# Altium integrated library Zilog Microprocessor 8-Bit.IntLib: 44 symbols (part 1 of 2)
Pins are listed as number, name and electrical type; pins without a type are passive.

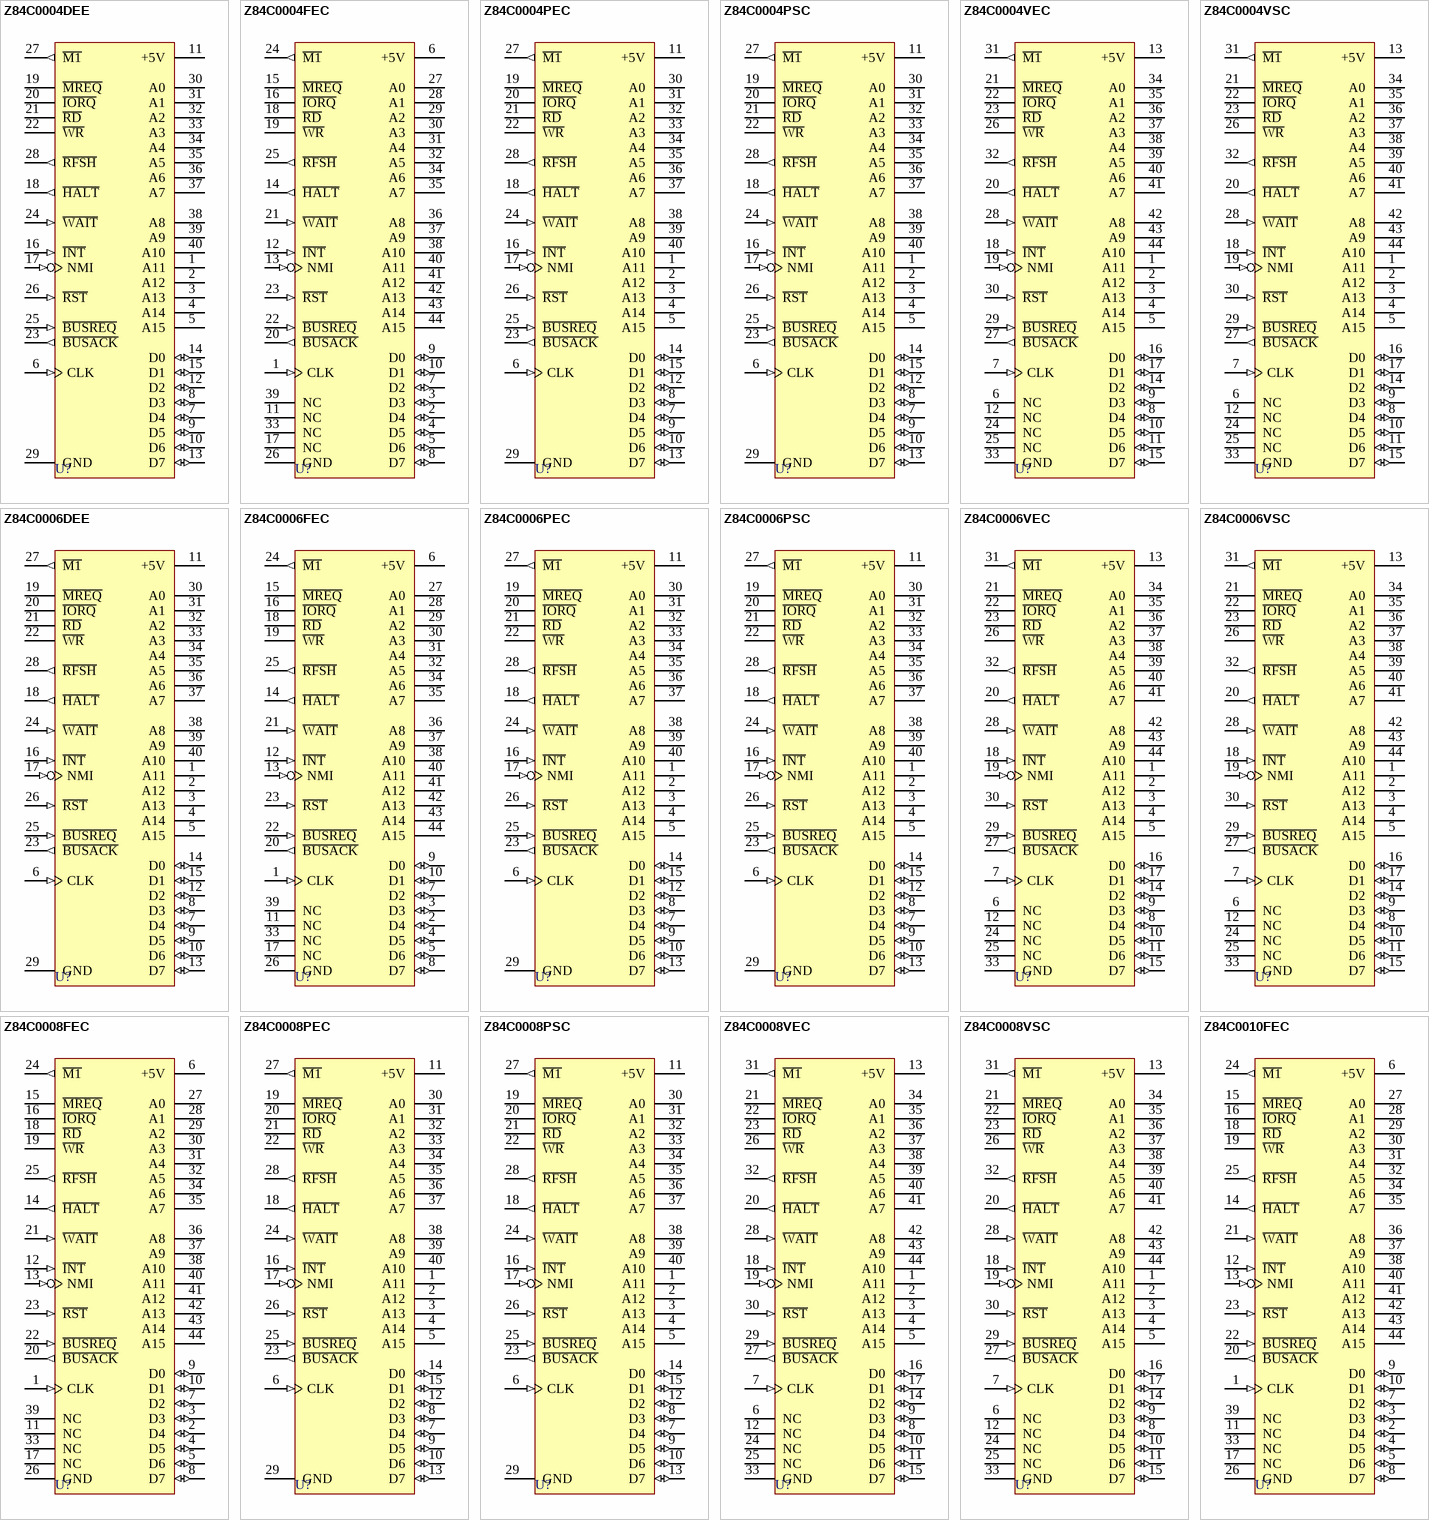
[diagram p0: symbols Z84C0004DEE to Z84C0010FEC]

## Z84C0004DEE
designator U?
CMOS 8-Bit Microprocessor; Published: 15-Apr-2002; LatestRevisionDate: 04-Mar-2005; LatestRevisionNote: Stylized 3D Model Added.; DatasheetVersion: Jan-1989; PackageVersion: 1999; PackageReference: CerDIP40; Publisher: Altium Limited; PackageDescription: DIP; 40 Leads; Row Spacing 15.24 mm; Pitch 2.54 mm; ComponentLink1Description: Manufacturer Link; ComponentLink1URL: http://www.zilog.com/
footprint CerDIP40 (DIP; 40 Leads; Row Spacing 15.24 mm; Pitch 2.54 mm)
3D model PDIP40 (DIP; 40 Leads; Row Spacing 15.24 mm; Pitch 2.54 mm)
pins: 1 A11 (hiz), 2 A12 (hiz), 3 A13 (hiz), 4 A14 (hiz), 5 A15 (hiz), 6 CLK (in), 7 D4 (io), 8 D3 (io), 9 D5 (io), 10 D6 (io), 11 +5V (power), 12 D2 (io), 13 D7 (io), 14 D0 (io), 15 D1 (io), 16 ~{INT} (in), 17 NMI (in), 18 ~{HALT} (out), 19 ~{MREQ} (hiz), 20 ~{IORQ} (hiz), 21 ~{RD} (hiz), 22 ~{WR} (hiz), 23 ~{BUSACK} (out), 24 ~{WAIT} (in), 25 ~{BUSREQ} (in), 26 ~{RST} (in), 27 ~{M1} (out), 28 ~{RFSH} (out), 29 GND (power), 30 A0 (hiz), 31 A1 (hiz), 32 A2 (hiz), 33 A3 (hiz), 34 A4 (hiz), 35 A5 (hiz), 36 A6 (hiz), 37 A7 (hiz), 38 A8 (hiz), 39 A9 (hiz), 40 A10 (hiz)

## Z84C0004FEC
designator U?
CMOS 8-Bit Microprocessor; Published: 15-Apr-2002; LatestRevisionDate: 13-Apr-2006; LatestRevisionNote: IPC-7351 Footprint Added.; DatasheetVersion: Jan-1989; PackageReference: PQFP44; Publisher: Altium Limited; PackageDescription: 44-Pin Quad Flat Pack 0.8 mm Pitch; ComponentLink1Description: Manufacturer Link; ComponentLink1URL: http://www.zilog.com/
footprint PQFP44_N (QFP, 44-Leads, Body 10x10mm, Pitch 0.8mm, IPC Medium Density)
footprint PQFP44_L (QFP, 44-Leads, Body 10x10mm, Pitch 0.8mm, IPC High Density)
footprint PQFP44_M (QFP, 44-Leads, Body 10x10mm, Pitch 0.8mm, IPC Low Density)
3D model Z84C00-PQFP44 (44-Pin Quad Flat Pack 0.8 mm Pitch)
pins: 1 CLK (in), 2 D4 (io), 3 D3 (io), 4 D5 (io), 5 D6 (io), 6 +5V (power), 7 D2 (io), 8 D7 (io), 9 D0 (io), 10 D1 (io), 11 NC, 12 ~{INT} (in), 13 NMI (in), 14 ~{HALT} (out), 15 ~{MREQ} (hiz), 16 ~{IORQ} (hiz), 17 NC, 18 ~{RD} (hiz), 19 ~{WR} (hiz), 20 ~{BUSACK} (out), 21 ~{WAIT} (in), 22 ~{BUSREQ} (in), 23 ~{RST} (in), 24 ~{M1} (out), 25 ~{RFSH} (out), 26 GND (power), 27 A0 (hiz), 28 A1 (hiz), 29 A2 (hiz), 30 A3 (hiz), 31 A4 (hiz), 32 A5 (hiz), 33 NC, 34 A6 (hiz), 35 A7 (hiz), 36 A8 (hiz), 37 A9 (hiz), 38 A10 (hiz), 39 NC, 40 A11 (hiz), 41 A12 (hiz), 42 A13 (hiz), 43 A14 (hiz), 44 A15 (hiz)

## Z84C0004PEC
designator U?
CMOS 8-Bit Microprocessor; Published: 15-Apr-2002; LatestRevisionDate: 04-Mar-2005; LatestRevisionNote: Stylized 3D Model Added.; DatasheetVersion: Jan-1989; PackageVersion: Jun-1999; PackageReference: PDIP40; Publisher: Altium Limited; PackageDescription: DIP; 40 Leads; Row Spacing 15.24 mm; Pitch 2.54 mm; ComponentLink1Description: Manufacturer Link; ComponentLink1URL: http://www.zilog.com/
footprint PDIP40 (DIP; 40 Leads; Row Spacing 15.24 mm; Pitch 2.54 mm)
3D model PDIP40 (DIP; 40 Leads; Row Spacing 15.24 mm; Pitch 2.54 mm)
pins: 1 A11 (hiz), 2 A12 (hiz), 3 A13 (hiz), 4 A14 (hiz), 5 A15 (hiz), 6 CLK (in), 7 D4 (io), 8 D3 (io), 9 D5 (io), 10 D6 (io), 11 +5V (power), 12 D2 (io), 13 D7 (io), 14 D0 (io), 15 D1 (io), 16 ~{INT} (in), 17 NMI (in), 18 ~{HALT} (out), 19 ~{MREQ} (hiz), 20 ~{IORQ} (hiz), 21 ~{RD} (hiz), 22 ~{WR} (hiz), 23 ~{BUSACK} (out), 24 ~{WAIT} (in), 25 ~{BUSREQ} (in), 26 ~{RST} (in), 27 ~{M1} (out), 28 ~{RFSH} (out), 29 GND (power), 30 A0 (hiz), 31 A1 (hiz), 32 A2 (hiz), 33 A3 (hiz), 34 A4 (hiz), 35 A5 (hiz), 36 A6 (hiz), 37 A7 (hiz), 38 A8 (hiz), 39 A9 (hiz), 40 A10 (hiz)

## Z84C0004PSC
designator U?
CMOS 8-Bit Microprocessor; Published: 15-Apr-2002; LatestRevisionDate: 04-Mar-2005; LatestRevisionNote: Stylized 3D Model Added.; DatasheetVersion: Jan-1989; PackageVersion: Jun-1999; PackageReference: PDIP40; Publisher: Altium Limited; PackageDescription: DIP; 40 Leads; Row Spacing 15.24 mm; Pitch 2.54 mm; ComponentLink1Description: Manufacturer Link; ComponentLink1URL: http://www.zilog.com/
footprint PDIP40 (DIP; 40 Leads; Row Spacing 15.24 mm; Pitch 2.54 mm)
3D model PDIP40 (DIP; 40 Leads; Row Spacing 15.24 mm; Pitch 2.54 mm)
pins: 1 A11 (hiz), 2 A12 (hiz), 3 A13 (hiz), 4 A14 (hiz), 5 A15 (hiz), 6 CLK (in), 7 D4 (io), 8 D3 (io), 9 D5 (io), 10 D6 (io), 11 +5V (power), 12 D2 (io), 13 D7 (io), 14 D0 (io), 15 D1 (io), 16 ~{INT} (in), 17 NMI (in), 18 ~{HALT} (out), 19 ~{MREQ} (hiz), 20 ~{IORQ} (hiz), 21 ~{RD} (hiz), 22 ~{WR} (hiz), 23 ~{BUSACK} (out), 24 ~{WAIT} (in), 25 ~{BUSREQ} (in), 26 ~{RST} (in), 27 ~{M1} (out), 28 ~{RFSH} (out), 29 GND (power), 30 A0 (hiz), 31 A1 (hiz), 32 A2 (hiz), 33 A3 (hiz), 34 A4 (hiz), 35 A5 (hiz), 36 A6 (hiz), 37 A7 (hiz), 38 A8 (hiz), 39 A9 (hiz), 40 A10 (hiz)

## Z84C0004VEC
designator U?
CMOS 8-Bit Microprocessor; Published: 15-Apr-2002; LatestRevisionDate: 13-Apr-2006; LatestRevisionNote: IPC-7351 Footprint Added.; DatasheetVersion: Jan-1989; PackageReference: PCC44; Publisher: Altium Limited; PackageDescription: 44-Pin Leaded Chip Carrier 1.27 mm Pitch; Code_IPC: PLCC-44; ComponentLink1Description: Manufacturer Link; ComponentLink1URL: http://www.zilog.com/
footprint PCC44_N (Leaded Chip Carrier, 44-Leads, Body 16.6x16.6mm, Pitch 1.27mm, IPC Medium Density)
footprint PCC44_L (Leaded Chip Carrier, 44-Leads, Body 16.6x16.6mm, Pitch 1.27mm, IPC High Density)
footprint PCC44_M (Leaded Chip Carrier, 44-Leads, Body 16.6x16.6mm, Pitch 1.27mm, IPC Low Density)
3D model Z84C00-PCC44 (44-Pin Leaded Chip Carrier 1.27 mm Pitch)
pins: 1 A11 (hiz), 2 A12 (hiz), 3 A13 (hiz), 4 A14 (hiz), 5 A15 (hiz), 6 NC, 7 CLK (in), 8 D4 (io), 9 D3 (io), 10 D5 (io), 11 D6 (io), 12 NC, 13 +5V (power), 14 D2 (io), 15 D7 (io), 16 D0 (io), 17 D1 (io), 18 ~{INT} (in), 19 NMI (in), 20 ~{HALT} (out), 21 ~{MREQ} (hiz), 22 ~{IORQ} (hiz), 23 ~{RD} (hiz), 24 NC, 25 NC, 26 ~{WR} (hiz), 27 ~{BUSACK} (out), 28 ~{WAIT} (in), 29 ~{BUSREQ} (in), 30 ~{RST} (in), 31 ~{M1} (out), 32 ~{RFSH} (out), 33 GND (power), 34 A0 (hiz), 35 A1 (hiz), 36 A2 (hiz), 37 A3 (hiz), 38 A4 (hiz), 39 A5 (hiz), 40 A6 (hiz), 41 A7 (hiz), 42 A8 (hiz), 43 A9 (hiz), 44 A10 (hiz)

## Z84C0004VSC
designator U?
CMOS 8-Bit Microprocessor; Published: 15-Apr-2002; LatestRevisionDate: 13-Apr-2006; LatestRevisionNote: IPC-7351 Footprint Added.; DatasheetVersion: Jan-1989; PackageReference: PCC44; Publisher: Altium Limited; PackageDescription: 44-Pin Leaded Chip Carrier 1.27 mm Pitch; Code_IPC: PLCC-44; ComponentLink1Description: Manufacturer Link; ComponentLink1URL: http://www.zilog.com/
footprint PCC44_N (Leaded Chip Carrier, 44-Leads, Body 16.6x16.6mm, Pitch 1.27mm, IPC Medium Density)
footprint PCC44_L (Leaded Chip Carrier, 44-Leads, Body 16.6x16.6mm, Pitch 1.27mm, IPC High Density)
footprint PCC44_M (Leaded Chip Carrier, 44-Leads, Body 16.6x16.6mm, Pitch 1.27mm, IPC Low Density)
3D model Z84C00-PCC44 (44-Pin Leaded Chip Carrier 1.27 mm Pitch)
pins: 1 A11 (hiz), 2 A12 (hiz), 3 A13 (hiz), 4 A14 (hiz), 5 A15 (hiz), 6 NC, 7 CLK (in), 8 D4 (io), 9 D3 (io), 10 D5 (io), 11 D6 (io), 12 NC, 13 +5V (power), 14 D2 (io), 15 D7 (io), 16 D0 (io), 17 D1 (io), 18 ~{INT} (in), 19 NMI (in), 20 ~{HALT} (out), 21 ~{MREQ} (hiz), 22 ~{IORQ} (hiz), 23 ~{RD} (hiz), 24 NC, 25 NC, 26 ~{WR} (hiz), 27 ~{BUSACK} (out), 28 ~{WAIT} (in), 29 ~{BUSREQ} (in), 30 ~{RST} (in), 31 ~{M1} (out), 32 ~{RFSH} (out), 33 GND (power), 34 A0 (hiz), 35 A1 (hiz), 36 A2 (hiz), 37 A3 (hiz), 38 A4 (hiz), 39 A5 (hiz), 40 A6 (hiz), 41 A7 (hiz), 42 A8 (hiz), 43 A9 (hiz), 44 A10 (hiz)

## Z84C0006DEE
designator U?
CMOS 8-Bit Microprocessor; Published: 15-Apr-2002; LatestRevisionDate: 04-Mar-2005; LatestRevisionNote: Stylized 3D Model Added.; DatasheetVersion: Jan-1989; PackageVersion: 1999; PackageReference: CerDIP40; Publisher: Altium Limited; PackageDescription: DIP; 40 Leads; Row Spacing 15.24 mm; Pitch 2.54 mm; ComponentLink1Description: Manufacturer Link; ComponentLink1URL: http://www.zilog.com/
footprint CerDIP40 (DIP; 40 Leads; Row Spacing 15.24 mm; Pitch 2.54 mm)
3D model PDIP40 (DIP; 40 Leads; Row Spacing 15.24 mm; Pitch 2.54 mm)
pins: 1 A11 (hiz), 2 A12 (hiz), 3 A13 (hiz), 4 A14 (hiz), 5 A15 (hiz), 6 CLK (in), 7 D4 (io), 8 D3 (io), 9 D5 (io), 10 D6 (io), 11 +5V (power), 12 D2 (io), 13 D7 (io), 14 D0 (io), 15 D1 (io), 16 ~{INT} (in), 17 NMI (in), 18 ~{HALT} (out), 19 ~{MREQ} (hiz), 20 ~{IORQ} (hiz), 21 ~{RD} (hiz), 22 ~{WR} (hiz), 23 ~{BUSACK} (out), 24 ~{WAIT} (in), 25 ~{BUSREQ} (in), 26 ~{RST} (in), 27 ~{M1} (out), 28 ~{RFSH} (out), 29 GND (power), 30 A0 (hiz), 31 A1 (hiz), 32 A2 (hiz), 33 A3 (hiz), 34 A4 (hiz), 35 A5 (hiz), 36 A6 (hiz), 37 A7 (hiz), 38 A8 (hiz), 39 A9 (hiz), 40 A10 (hiz)

## Z84C0006FEC
designator U?
CMOS 8-Bit Microprocessor; Published: 15-Apr-2002; LatestRevisionDate: 13-Apr-2006; LatestRevisionNote: IPC-7351 Footprint Added.; DatasheetVersion: Jan-1989; PackageReference: PQFP44; Publisher: Altium Limited; PackageDescription: 44-Pin Quad Flat Pack 0.8 mm Pitch; ComponentLink1Description: Manufacturer Link; ComponentLink1URL: http://www.zilog.com/; ComponentLink2Description: Datasheet; ComponentLink2URL: http://www.zilog.com/docs/z80/um0081.pdf
footprint PQFP44_N (QFP, 44-Leads, Body 10x10mm, Pitch 0.8mm, IPC Medium Density)
footprint PQFP44_L (QFP, 44-Leads, Body 10x10mm, Pitch 0.8mm, IPC High Density)
footprint PQFP44_M (QFP, 44-Leads, Body 10x10mm, Pitch 0.8mm, IPC Low Density)
3D model Z84C00-PQFP44 (44-Pin Quad Flat Pack 0.8 mm Pitch)
pins: 1 CLK (in), 2 D4 (io), 3 D3 (io), 4 D5 (io), 5 D6 (io), 6 +5V (power), 7 D2 (io), 8 D7 (io), 9 D0 (io), 10 D1 (io), 11 NC, 12 ~{INT} (in), 13 NMI (in), 14 ~{HALT} (out), 15 ~{MREQ} (hiz), 16 ~{IORQ} (hiz), 17 NC, 18 ~{RD} (hiz), 19 ~{WR} (hiz), 20 ~{BUSACK} (out), 21 ~{WAIT} (in), 22 ~{BUSREQ} (in), 23 ~{RST} (in), 24 ~{M1} (out), 25 ~{RFSH} (out), 26 GND (power), 27 A0 (hiz), 28 A1 (hiz), 29 A2 (hiz), 30 A3 (hiz), 31 A4 (hiz), 32 A5 (hiz), 33 NC, 34 A6 (hiz), 35 A7 (hiz), 36 A8 (hiz), 37 A9 (hiz), 38 A10 (hiz), 39 NC, 40 A11 (hiz), 41 A12 (hiz), 42 A13 (hiz), 43 A14 (hiz), 44 A15 (hiz)

## Z84C0006PEC
designator U?
CMOS 8-Bit Microprocessor; Published: 15-Apr-2002; LatestRevisionDate: 04-Mar-2005; LatestRevisionNote: Stylized 3D Model Added.; DatasheetVersion: Jan-1989; PackageVersion: Jun-1999; PackageReference: PDIP40; Publisher: Altium Limited; PackageDescription: DIP; 40 Leads; Row Spacing 15.24 mm; Pitch 2.54 mm; ComponentLink1Description: Manufacturer Link; ComponentLink1URL: http://www.zilog.com/; ComponentLink2Description: Datasheet; ComponentLink2URL: http://www.zilog.com/docs/z80/um0081.pdf
footprint PDIP40 (DIP; 40 Leads; Row Spacing 15.24 mm; Pitch 2.54 mm)
3D model PDIP40 (DIP; 40 Leads; Row Spacing 15.24 mm; Pitch 2.54 mm)
pins: 1 A11 (hiz), 2 A12 (hiz), 3 A13 (hiz), 4 A14 (hiz), 5 A15 (hiz), 6 CLK (in), 7 D4 (io), 8 D3 (io), 9 D5 (io), 10 D6 (io), 11 +5V (power), 12 D2 (io), 13 D7 (io), 14 D0 (io), 15 D1 (io), 16 ~{INT} (in), 17 NMI (in), 18 ~{HALT} (out), 19 ~{MREQ} (hiz), 20 ~{IORQ} (hiz), 21 ~{RD} (hiz), 22 ~{WR} (hiz), 23 ~{BUSACK} (out), 24 ~{WAIT} (in), 25 ~{BUSREQ} (in), 26 ~{RST} (in), 27 ~{M1} (out), 28 ~{RFSH} (out), 29 GND (power), 30 A0 (hiz), 31 A1 (hiz), 32 A2 (hiz), 33 A3 (hiz), 34 A4 (hiz), 35 A5 (hiz), 36 A6 (hiz), 37 A7 (hiz), 38 A8 (hiz), 39 A9 (hiz), 40 A10 (hiz)

## Z84C0006PSC
designator U?
CMOS 8-Bit Microprocessor; Published: 15-Apr-2002; LatestRevisionDate: 04-Mar-2005; LatestRevisionNote: Stylized 3D Model Added.; DatasheetVersion: Jan-1989; PackageVersion: Jun-1999; PackageReference: PDIP40; Publisher: Altium Limited; PackageDescription: DIP; 40 Leads; Row Spacing 15.24 mm; Pitch 2.54 mm; ComponentLink1Description: Manufacturer Link; ComponentLink1URL: http://www.zilog.com/
footprint PDIP40 (DIP; 40 Leads; Row Spacing 15.24 mm; Pitch 2.54 mm)
3D model PDIP40 (DIP; 40 Leads; Row Spacing 15.24 mm; Pitch 2.54 mm)
pins: 1 A11 (hiz), 2 A12 (hiz), 3 A13 (hiz), 4 A14 (hiz), 5 A15 (hiz), 6 CLK (in), 7 D4 (io), 8 D3 (io), 9 D5 (io), 10 D6 (io), 11 +5V (power), 12 D2 (io), 13 D7 (io), 14 D0 (io), 15 D1 (io), 16 ~{INT} (in), 17 NMI (in), 18 ~{HALT} (out), 19 ~{MREQ} (hiz), 20 ~{IORQ} (hiz), 21 ~{RD} (hiz), 22 ~{WR} (hiz), 23 ~{BUSACK} (out), 24 ~{WAIT} (in), 25 ~{BUSREQ} (in), 26 ~{RST} (in), 27 ~{M1} (out), 28 ~{RFSH} (out), 29 GND (power), 30 A0 (hiz), 31 A1 (hiz), 32 A2 (hiz), 33 A3 (hiz), 34 A4 (hiz), 35 A5 (hiz), 36 A6 (hiz), 37 A7 (hiz), 38 A8 (hiz), 39 A9 (hiz), 40 A10 (hiz)

## Z84C0006VEC
designator U?
CMOS 8-Bit Microprocessor; Published: 15-Apr-2002; LatestRevisionDate: 13-Apr-2006; LatestRevisionNote: IPC-7351 Footprint Added.; DatasheetVersion: Jan-1989; PackageReference: PCC44; Publisher: Altium Limited; PackageDescription: 44-Pin Leaded Chip Carrier 1.27 mm Pitch; Code_IPC: PLCC-44; ComponentLink1Description: Manufacturer Link; ComponentLink1URL: http://www.zilog.com/; ComponentLink2Description: Datasheet; ComponentLink2URL: http://www.zilog.com/docs/z80/um0081.pdf
footprint PCC44_N (Leaded Chip Carrier, 44-Leads, Body 16.6x16.6mm, Pitch 1.27mm, IPC Medium Density)
footprint PCC44_L (Leaded Chip Carrier, 44-Leads, Body 16.6x16.6mm, Pitch 1.27mm, IPC High Density)
footprint PCC44_M (Leaded Chip Carrier, 44-Leads, Body 16.6x16.6mm, Pitch 1.27mm, IPC Low Density)
3D model Z84C00-PCC44 (44-Pin Leaded Chip Carrier 1.27 mm Pitch)
pins: 1 A11 (hiz), 2 A12 (hiz), 3 A13 (hiz), 4 A14 (hiz), 5 A15 (hiz), 6 NC, 7 CLK (in), 8 D4 (io), 9 D3 (io), 10 D5 (io), 11 D6 (io), 12 NC, 13 +5V (power), 14 D2 (io), 15 D7 (io), 16 D0 (io), 17 D1 (io), 18 ~{INT} (in), 19 NMI (in), 20 ~{HALT} (out), 21 ~{MREQ} (hiz), 22 ~{IORQ} (hiz), 23 ~{RD} (hiz), 24 NC, 25 NC, 26 ~{WR} (hiz), 27 ~{BUSACK} (out), 28 ~{WAIT} (in), 29 ~{BUSREQ} (in), 30 ~{RST} (in), 31 ~{M1} (out), 32 ~{RFSH} (out), 33 GND (power), 34 A0 (hiz), 35 A1 (hiz), 36 A2 (hiz), 37 A3 (hiz), 38 A4 (hiz), 39 A5 (hiz), 40 A6 (hiz), 41 A7 (hiz), 42 A8 (hiz), 43 A9 (hiz), 44 A10 (hiz)

## Z84C0006VSC
designator U?
CMOS 8-Bit Microprocessor; Published: 15-Apr-2002; LatestRevisionDate: 13-Apr-2006; LatestRevisionNote: IPC-7351 Footprint Added.; DatasheetVersion: Jan-1989; PackageReference: PCC44; Publisher: Altium Limited; PackageDescription: 44-Pin Leaded Chip Carrier 1.27 mm Pitch; Code_IPC: PLCC-44; ComponentLink1Description: Manufacturer Link; ComponentLink1URL: http://www.zilog.com/
footprint PCC44_N (Leaded Chip Carrier, 44-Leads, Body 16.6x16.6mm, Pitch 1.27mm, IPC Medium Density)
footprint PCC44_L (Leaded Chip Carrier, 44-Leads, Body 16.6x16.6mm, Pitch 1.27mm, IPC High Density)
footprint PCC44_M (Leaded Chip Carrier, 44-Leads, Body 16.6x16.6mm, Pitch 1.27mm, IPC Low Density)
3D model Z84C00-PCC44 (44-Pin Leaded Chip Carrier 1.27 mm Pitch)
pins: 1 A11 (hiz), 2 A12 (hiz), 3 A13 (hiz), 4 A14 (hiz), 5 A15 (hiz), 6 NC, 7 CLK (in), 8 D4 (io), 9 D3 (io), 10 D5 (io), 11 D6 (io), 12 NC, 13 +5V (power), 14 D2 (io), 15 D7 (io), 16 D0 (io), 17 D1 (io), 18 ~{INT} (in), 19 NMI (in), 20 ~{HALT} (out), 21 ~{MREQ} (hiz), 22 ~{IORQ} (hiz), 23 ~{RD} (hiz), 24 NC, 25 NC, 26 ~{WR} (hiz), 27 ~{BUSACK} (out), 28 ~{WAIT} (in), 29 ~{BUSREQ} (in), 30 ~{RST} (in), 31 ~{M1} (out), 32 ~{RFSH} (out), 33 GND (power), 34 A0 (hiz), 35 A1 (hiz), 36 A2 (hiz), 37 A3 (hiz), 38 A4 (hiz), 39 A5 (hiz), 40 A6 (hiz), 41 A7 (hiz), 42 A8 (hiz), 43 A9 (hiz), 44 A10 (hiz)

## Z84C0008FEC
designator U?
CMOS 8-Bit Microprocessor; Published: 15-Apr-2002; LatestRevisionDate: 13-Apr-2006; LatestRevisionNote: IPC-7351 Footprint Added.; DatasheetVersion: Jan-1989; PackageReference: PQFP44; Publisher: Altium Limited; PackageDescription: 44-Pin Quad Flat Pack 0.8 mm Pitch; ComponentLink1Description: Manufacturer Link; ComponentLink1URL: http://www.zilog.com/; ComponentLink2Description: Datasheet; ComponentLink2URL: http://www.zilog.com/docs/z80/um0081.pdf
footprint PQFP44_N (QFP, 44-Leads, Body 10x10mm, Pitch 0.8mm, IPC Medium Density)
footprint PQFP44_L (QFP, 44-Leads, Body 10x10mm, Pitch 0.8mm, IPC High Density)
footprint PQFP44_M (QFP, 44-Leads, Body 10x10mm, Pitch 0.8mm, IPC Low Density)
3D model Z84C00-PQFP44 (44-Pin Quad Flat Pack 0.8 mm Pitch)
pins: 1 CLK (in), 2 D4 (io), 3 D3 (io), 4 D5 (io), 5 D6 (io), 6 +5V (power), 7 D2 (io), 8 D7 (io), 9 D0 (io), 10 D1 (io), 11 NC, 12 ~{INT} (in), 13 NMI (in), 14 ~{HALT} (out), 15 ~{MREQ} (hiz), 16 ~{IORQ} (hiz), 17 NC, 18 ~{RD} (hiz), 19 ~{WR} (hiz), 20 ~{BUSACK} (out), 21 ~{WAIT} (in), 22 ~{BUSREQ} (in), 23 ~{RST} (in), 24 ~{M1} (out), 25 ~{RFSH} (out), 26 GND (power), 27 A0 (hiz), 28 A1 (hiz), 29 A2 (hiz), 30 A3 (hiz), 31 A4 (hiz), 32 A5 (hiz), 33 NC, 34 A6 (hiz), 35 A7 (hiz), 36 A8 (hiz), 37 A9 (hiz), 38 A10 (hiz), 39 NC, 40 A11 (hiz), 41 A12 (hiz), 42 A13 (hiz), 43 A14 (hiz), 44 A15 (hiz)

## Z84C0008PEC
designator U?
CMOS 8-Bit Microprocessor; Published: 15-Apr-2002; LatestRevisionDate: 04-Mar-2005; LatestRevisionNote: Stylized 3D Model Added.; DatasheetVersion: Jan-1989; PackageVersion: Jun-1999; PackageReference: PDIP40; Publisher: Altium Limited; PackageDescription: DIP; 40 Leads; Row Spacing 15.24 mm; Pitch 2.54 mm; ComponentLink1Description: Manufacturer Link; ComponentLink1URL: http://www.zilog.com/; ComponentLink2Description: Datasheet; ComponentLink2URL: http://www.zilog.com/docs/z80/um0081.pdf
footprint PDIP40 (DIP; 40 Leads; Row Spacing 15.24 mm; Pitch 2.54 mm)
3D model PDIP40 (DIP; 40 Leads; Row Spacing 15.24 mm; Pitch 2.54 mm)
pins: 1 A11 (hiz), 2 A12 (hiz), 3 A13 (hiz), 4 A14 (hiz), 5 A15 (hiz), 6 CLK (in), 7 D4 (io), 8 D3 (io), 9 D5 (io), 10 D6 (io), 11 +5V (power), 12 D2 (io), 13 D7 (io), 14 D0 (io), 15 D1 (io), 16 ~{INT} (in), 17 NMI (in), 18 ~{HALT} (out), 19 ~{MREQ} (hiz), 20 ~{IORQ} (hiz), 21 ~{RD} (hiz), 22 ~{WR} (hiz), 23 ~{BUSACK} (out), 24 ~{WAIT} (in), 25 ~{BUSREQ} (in), 26 ~{RST} (in), 27 ~{M1} (out), 28 ~{RFSH} (out), 29 GND (power), 30 A0 (hiz), 31 A1 (hiz), 32 A2 (hiz), 33 A3 (hiz), 34 A4 (hiz), 35 A5 (hiz), 36 A6 (hiz), 37 A7 (hiz), 38 A8 (hiz), 39 A9 (hiz), 40 A10 (hiz)

## Z84C0008PSC
designator U?
CMOS 8-Bit Microprocessor; Published: 15-Apr-2002; LatestRevisionDate: 04-Mar-2005; LatestRevisionNote: Stylized 3D Model Added.; DatasheetVersion: Jan-1989; PackageVersion: Jun-1999; PackageReference: PDIP40; Publisher: Altium Limited; PackageDescription: DIP; 40 Leads; Row Spacing 15.24 mm; Pitch 2.54 mm; ComponentLink1Description: Manufacturer Link; ComponentLink1URL: http://www.zilog.com/
footprint PDIP40 (DIP; 40 Leads; Row Spacing 15.24 mm; Pitch 2.54 mm)
3D model PDIP40 (DIP; 40 Leads; Row Spacing 15.24 mm; Pitch 2.54 mm)
pins: 1 A11 (hiz), 2 A12 (hiz), 3 A13 (hiz), 4 A14 (hiz), 5 A15 (hiz), 6 CLK (in), 7 D4 (io), 8 D3 (io), 9 D5 (io), 10 D6 (io), 11 +5V (power), 12 D2 (io), 13 D7 (io), 14 D0 (io), 15 D1 (io), 16 ~{INT} (in), 17 NMI (in), 18 ~{HALT} (out), 19 ~{MREQ} (hiz), 20 ~{IORQ} (hiz), 21 ~{RD} (hiz), 22 ~{WR} (hiz), 23 ~{BUSACK} (out), 24 ~{WAIT} (in), 25 ~{BUSREQ} (in), 26 ~{RST} (in), 27 ~{M1} (out), 28 ~{RFSH} (out), 29 GND (power), 30 A0 (hiz), 31 A1 (hiz), 32 A2 (hiz), 33 A3 (hiz), 34 A4 (hiz), 35 A5 (hiz), 36 A6 (hiz), 37 A7 (hiz), 38 A8 (hiz), 39 A9 (hiz), 40 A10 (hiz)

## Z84C0008VEC
designator U?
CMOS 8-Bit Microprocessor; Published: 15-Apr-2002; LatestRevisionDate: 13-Apr-2006; LatestRevisionNote: IPC-7351 Footprint Added.; DatasheetVersion: Jan-1989; PackageReference: PCC44; Publisher: Altium Limited; PackageDescription: 44-Pin Leaded Chip Carrier 1.27 mm Pitch; Code_IPC: PLCC-44; ComponentLink1Description: Manufacturer Link; ComponentLink1URL: http://www.zilog.com/; ComponentLink2Description: Datasheet; ComponentLink2URL: http://www.zilog.com/docs/z80/um0081.pdf
footprint PCC44_N (Leaded Chip Carrier, 44-Leads, Body 16.6x16.6mm, Pitch 1.27mm, IPC Medium Density)
footprint PCC44_L (Leaded Chip Carrier, 44-Leads, Body 16.6x16.6mm, Pitch 1.27mm, IPC High Density)
footprint PCC44_M (Leaded Chip Carrier, 44-Leads, Body 16.6x16.6mm, Pitch 1.27mm, IPC Low Density)
3D model Z84C00-PCC44 (44-Pin Leaded Chip Carrier 1.27 mm Pitch)
pins: 1 A11 (hiz), 2 A12 (hiz), 3 A13 (hiz), 4 A14 (hiz), 5 A15 (hiz), 6 NC, 7 CLK (in), 8 D4 (io), 9 D3 (io), 10 D5 (io), 11 D6 (io), 12 NC, 13 +5V (power), 14 D2 (io), 15 D7 (io), 16 D0 (io), 17 D1 (io), 18 ~{INT} (in), 19 NMI (in), 20 ~{HALT} (out), 21 ~{MREQ} (hiz), 22 ~{IORQ} (hiz), 23 ~{RD} (hiz), 24 NC, 25 NC, 26 ~{WR} (hiz), 27 ~{BUSACK} (out), 28 ~{WAIT} (in), 29 ~{BUSREQ} (in), 30 ~{RST} (in), 31 ~{M1} (out), 32 ~{RFSH} (out), 33 GND (power), 34 A0 (hiz), 35 A1 (hiz), 36 A2 (hiz), 37 A3 (hiz), 38 A4 (hiz), 39 A5 (hiz), 40 A6 (hiz), 41 A7 (hiz), 42 A8 (hiz), 43 A9 (hiz), 44 A10 (hiz)

## Z84C0008VSC
designator U?
CMOS 8-Bit Microprocessor; Published: 15-Apr-2002; LatestRevisionDate: 13-Apr-2006; LatestRevisionNote: IPC-7351 Footprint Added.; DatasheetVersion: Jan-1989; PackageReference: PCC44; Publisher: Altium Limited; PackageDescription: 44-Pin Leaded Chip Carrier 1.27 mm Pitch; Code_IPC: PLCC-44; ComponentLink1Description: Manufacturer Link; ComponentLink1URL: http://www.zilog.com/
footprint PCC44_N (Leaded Chip Carrier, 44-Leads, Body 16.6x16.6mm, Pitch 1.27mm, IPC Medium Density)
footprint PCC44_L (Leaded Chip Carrier, 44-Leads, Body 16.6x16.6mm, Pitch 1.27mm, IPC High Density)
footprint PCC44_M (Leaded Chip Carrier, 44-Leads, Body 16.6x16.6mm, Pitch 1.27mm, IPC Low Density)
3D model Z84C00-PCC44 (44-Pin Leaded Chip Carrier 1.27 mm Pitch)
pins: 1 A11 (hiz), 2 A12 (hiz), 3 A13 (hiz), 4 A14 (hiz), 5 A15 (hiz), 6 NC, 7 CLK (in), 8 D4 (io), 9 D3 (io), 10 D5 (io), 11 D6 (io), 12 NC, 13 +5V (power), 14 D2 (io), 15 D7 (io), 16 D0 (io), 17 D1 (io), 18 ~{INT} (in), 19 NMI (in), 20 ~{HALT} (out), 21 ~{MREQ} (hiz), 22 ~{IORQ} (hiz), 23 ~{RD} (hiz), 24 NC, 25 NC, 26 ~{WR} (hiz), 27 ~{BUSACK} (out), 28 ~{WAIT} (in), 29 ~{BUSREQ} (in), 30 ~{RST} (in), 31 ~{M1} (out), 32 ~{RFSH} (out), 33 GND (power), 34 A0 (hiz), 35 A1 (hiz), 36 A2 (hiz), 37 A3 (hiz), 38 A4 (hiz), 39 A5 (hiz), 40 A6 (hiz), 41 A7 (hiz), 42 A8 (hiz), 43 A9 (hiz), 44 A10 (hiz)

## Z84C0010FEC
designator U?
CMOS 8-Bit Microprocessor; Published: 15-Apr-2002; LatestRevisionDate: 13-Apr-2006; LatestRevisionNote: IPC-7351 Footprint Added.; DatasheetVersion: Jan-1989; PackageReference: PQFP44; Publisher: Altium Limited; PackageDescription: 44-Pin Quad Flat Pack 0.8 mm Pitch; ComponentLink1Description: Manufacturer Link; ComponentLink1URL: http://www.zilog.com/; ComponentLink2Description: Datasheet; ComponentLink2URL: http://www.zilog.com/docs/z80/um0081.pdf
footprint PQFP44_N (QFP, 44-Leads, Body 10x10mm, Pitch 0.8mm, IPC Medium Density)
footprint PQFP44_L (QFP, 44-Leads, Body 10x10mm, Pitch 0.8mm, IPC High Density)
footprint PQFP44_M (QFP, 44-Leads, Body 10x10mm, Pitch 0.8mm, IPC Low Density)
3D model Z84C00-PQFP44 (44-Pin Quad Flat Pack 0.8 mm Pitch)
pins: 1 CLK (in), 2 D4 (io), 3 D3 (io), 4 D5 (io), 5 D6 (io), 6 +5V (power), 7 D2 (io), 8 D7 (io), 9 D0 (io), 10 D1 (io), 11 NC, 12 ~{INT} (in), 13 NMI (in), 14 ~{HALT} (out), 15 ~{MREQ} (hiz), 16 ~{IORQ} (hiz), 17 NC, 18 ~{RD} (hiz), 19 ~{WR} (hiz), 20 ~{BUSACK} (out), 21 ~{WAIT} (in), 22 ~{BUSREQ} (in), 23 ~{RST} (in), 24 ~{M1} (out), 25 ~{RFSH} (out), 26 GND (power), 27 A0 (hiz), 28 A1 (hiz), 29 A2 (hiz), 30 A3 (hiz), 31 A4 (hiz), 32 A5 (hiz), 33 NC, 34 A6 (hiz), 35 A7 (hiz), 36 A8 (hiz), 37 A9 (hiz), 38 A10 (hiz), 39 NC, 40 A11 (hiz), 41 A12 (hiz), 42 A13 (hiz), 43 A14 (hiz), 44 A15 (hiz)

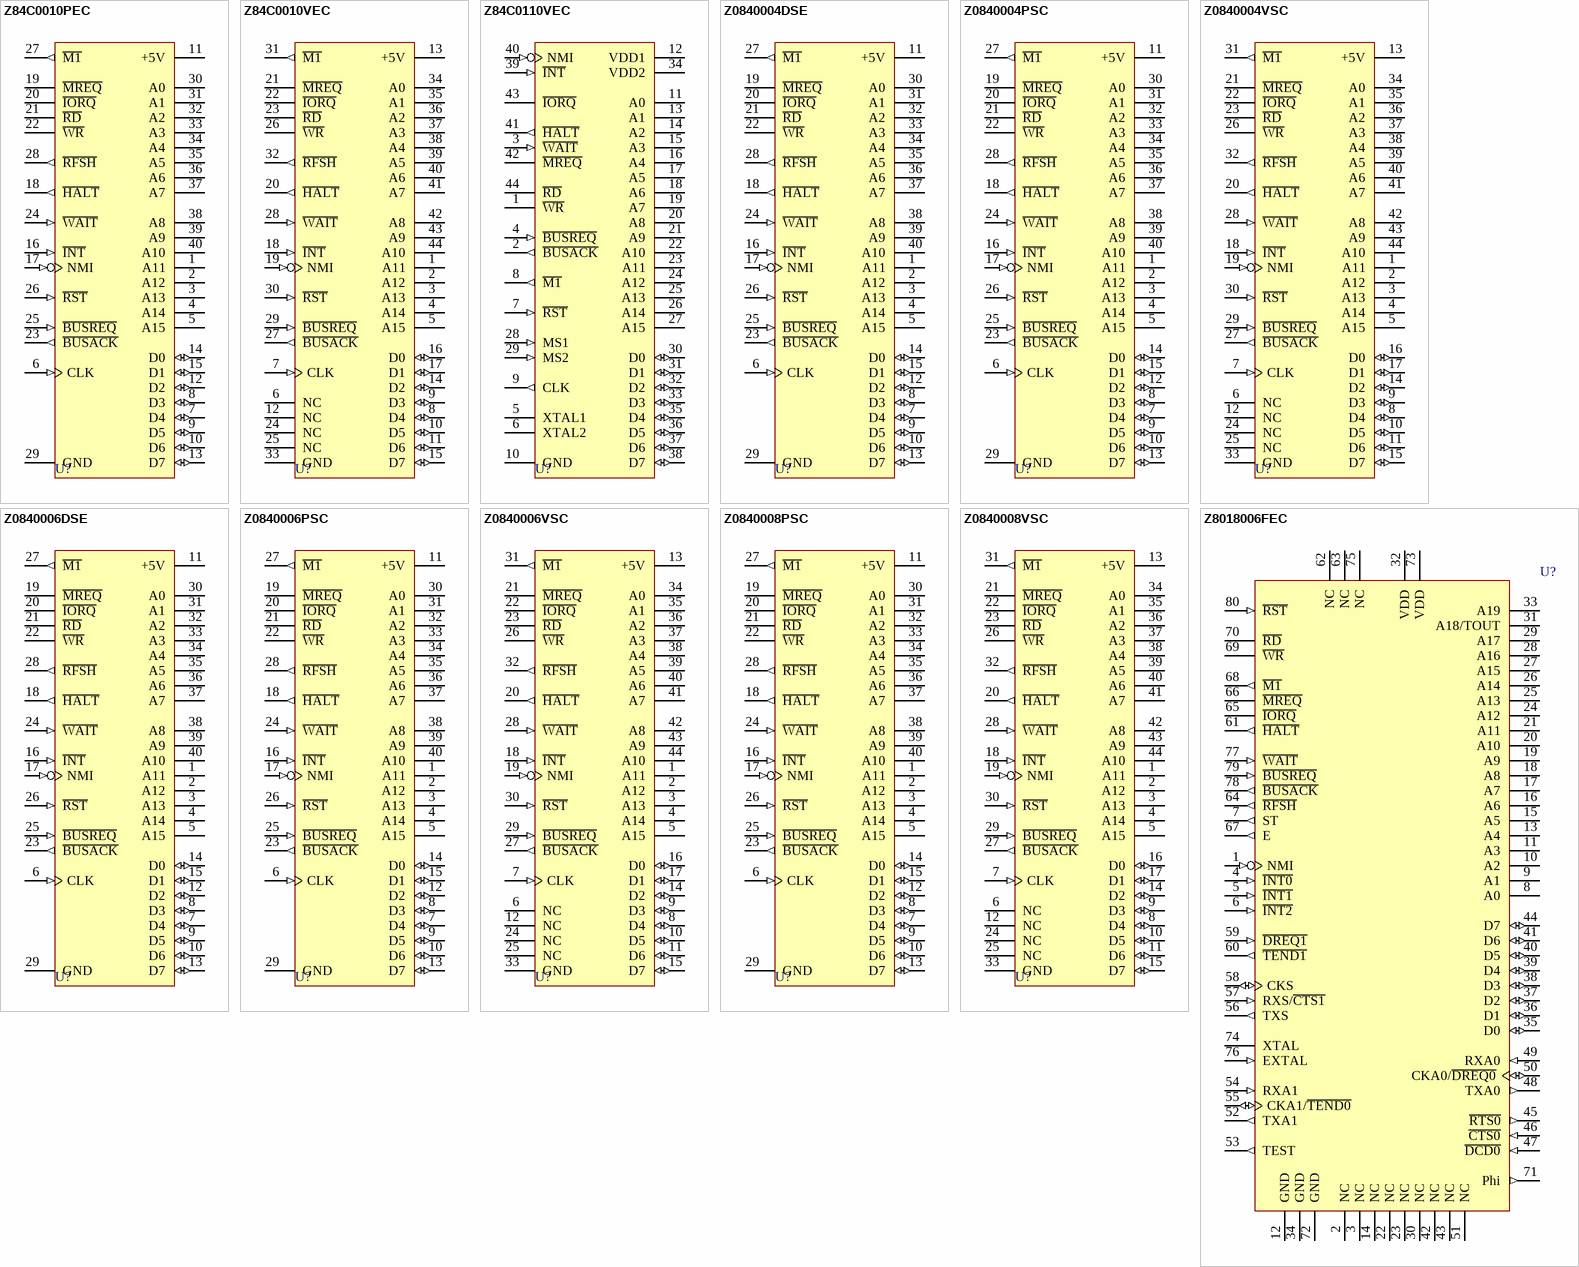
[diagram p1: symbols Z84C0010PEC to Z8018006FEC]

## Z84C0010PEC
designator U?
CMOS 8-Bit Microprocessor; Published: 15-Apr-2002; LatestRevisionDate: 04-Mar-2005; LatestRevisionNote: Stylized 3D Model Added.; DatasheetVersion: Jan-1989; PackageVersion: Jun-1999; PackageReference: PDIP40; Publisher: Altium Limited; PackageDescription: DIP; 40 Leads; Row Spacing 15.24 mm; Pitch 2.54 mm; ComponentLink1Description: Manufacturer Link; ComponentLink1URL: http://www.zilog.com/; ComponentLink2Description: Datasheet; ComponentLink2URL: http://www.zilog.com/docs/z80/um0081.pdf
footprint PDIP40 (DIP; 40 Leads; Row Spacing 15.24 mm; Pitch 2.54 mm)
3D model PDIP40 (DIP; 40 Leads; Row Spacing 15.24 mm; Pitch 2.54 mm)
pins: 1 A11 (hiz), 2 A12 (hiz), 3 A13 (hiz), 4 A14 (hiz), 5 A15 (hiz), 6 CLK (in), 7 D4 (io), 8 D3 (io), 9 D5 (io), 10 D6 (io), 11 +5V (power), 12 D2 (io), 13 D7 (io), 14 D0 (io), 15 D1 (io), 16 ~{INT} (in), 17 NMI (in), 18 ~{HALT} (out), 19 ~{MREQ} (hiz), 20 ~{IORQ} (hiz), 21 ~{RD} (hiz), 22 ~{WR} (hiz), 23 ~{BUSACK} (out), 24 ~{WAIT} (in), 25 ~{BUSREQ} (in), 26 ~{RST} (in), 27 ~{M1} (out), 28 ~{RFSH} (out), 29 GND (power), 30 A0 (hiz), 31 A1 (hiz), 32 A2 (hiz), 33 A3 (hiz), 34 A4 (hiz), 35 A5 (hiz), 36 A6 (hiz), 37 A7 (hiz), 38 A8 (hiz), 39 A9 (hiz), 40 A10 (hiz)

## Z84C0010VEC
designator U?
CMOS 8-Bit Microprocessor; Published: 15-Apr-2002; LatestRevisionDate: 13-Apr-2006; LatestRevisionNote: IPC-7351 Footprint Added.; DatasheetVersion: Jan-1989; PackageReference: PCC44; Publisher: Altium Limited; PackageDescription: 44-Pin Leaded Chip Carrier 1.27 mm Pitch; Code_IPC: PLCC-44; ComponentLink1Description: Manufacturer Link; ComponentLink1URL: http://www.zilog.com/; ComponentLink2Description: Datasheet; ComponentLink2URL: http://www.zilog.com/docs/z80/um0081.pdf
footprint PCC44_N (Leaded Chip Carrier, 44-Leads, Body 16.6x16.6mm, Pitch 1.27mm, IPC Medium Density)
footprint PCC44_L (Leaded Chip Carrier, 44-Leads, Body 16.6x16.6mm, Pitch 1.27mm, IPC High Density)
footprint PCC44_M (Leaded Chip Carrier, 44-Leads, Body 16.6x16.6mm, Pitch 1.27mm, IPC Low Density)
3D model Z84C00-PCC44 (44-Pin Leaded Chip Carrier 1.27 mm Pitch)
pins: 1 A11 (hiz), 2 A12 (hiz), 3 A13 (hiz), 4 A14 (hiz), 5 A15 (hiz), 6 NC, 7 CLK (in), 8 D4 (io), 9 D3 (io), 10 D5 (io), 11 D6 (io), 12 NC, 13 +5V (power), 14 D2 (io), 15 D7 (io), 16 D0 (io), 17 D1 (io), 18 ~{INT} (in), 19 NMI (in), 20 ~{HALT} (out), 21 ~{MREQ} (hiz), 22 ~{IORQ} (hiz), 23 ~{RD} (hiz), 24 NC, 25 NC, 26 ~{WR} (hiz), 27 ~{BUSACK} (out), 28 ~{WAIT} (in), 29 ~{BUSREQ} (in), 30 ~{RST} (in), 31 ~{M1} (out), 32 ~{RFSH} (out), 33 GND (power), 34 A0 (hiz), 35 A1 (hiz), 36 A2 (hiz), 37 A3 (hiz), 38 A4 (hiz), 39 A5 (hiz), 40 A6 (hiz), 41 A7 (hiz), 42 A8 (hiz), 43 A9 (hiz), 44 A10 (hiz)

## Z84C0110VEC
designator U?
8-Bit Microprocessor with Clock Generator/Controller; Published: 15-Apr-2002; LatestRevisionDate: 13-Apr-2006; LatestRevisionNote: IPC-7351 Footprint Added.; DatasheetVersion: Jan-1989; PackageReference: PCC44; Publisher: Altium Limited; PackageDescription: 44-Pin Leaded Chip Carrier 1.27 mm Pitch; Code_IPC: PLCC-44; ComponentLink1Description: Manufacturer Link; ComponentLink1URL: http://www.zilog.com/
footprint PCC44_N (Leaded Chip Carrier, 44-Leads, Body 16.6x16.6mm, Pitch 1.27mm, IPC Medium Density)
footprint PCC44_L (Leaded Chip Carrier, 44-Leads, Body 16.6x16.6mm, Pitch 1.27mm, IPC High Density)
footprint PCC44_M (Leaded Chip Carrier, 44-Leads, Body 16.6x16.6mm, Pitch 1.27mm, IPC Low Density)
3D model Z84C01-PCC44 (44-Pin Leaded Chip Carrier 1.27 mm Pitch)
pins: 1 ~{WR} (hiz), 2 ~{BUSACK} (out), 3 ~{WAIT} (in), 4 ~{BUSREQ} (in), 5 XTAL1, 6 XTAL2, 7 ~{RST} (in), 8 ~{M1} (out), 9 CLK (out), 10 GND (power), 11 A0 (hiz), 12 VDD1 (power), 13 A1 (hiz), 14 A2 (hiz), 15 A3 (hiz), 16 A4 (hiz), 17 A5 (hiz), 18 A6 (hiz), 19 A7 (hiz), 20 A8 (hiz), 21 A9 (hiz), 22 A10 (hiz), 23 A11 (hiz), 24 A12 (hiz), 25 A13 (hiz), 26 A14 (hiz), 27 A15 (hiz), 28 MS1 (in), 29 MS2 (in), 30 D0 (io), 31 D1 (io), 32 D2 (io), 33 D3 (io), 34 VDD2 (power), 35 D4 (io), 36 D5 (io), 37 D6 (io), 38 D7 (io), 39 ~{INT} (in), 40 NMI (in), 41 ~{HALT} (out), 42 ~{MREQ} (hiz), 43 ~{IORQ} (hiz), 44 ~{RD} (hiz)

## Z0840004DSE
designator U?
NMOS 8-Bit Microprocessor; Published: 15-Apr-2002; LatestRevisionDate: 04-Mar-2005; LatestRevisionNote: Stylized 3D Model Added.; DatasheetVersion: Jan-1989; PackageVersion: 1999; PackageReference: CerDIP40; Publisher: Altium Limited; PackageDescription: DIP; 40 Leads; Row Spacing 15.24 mm; Pitch 2.54 mm; ComponentLink1Description: Manufacturer Link; ComponentLink1URL: http://www.zilog.com/
footprint CerDIP40 (DIP; 40 Leads; Row Spacing 15.24 mm; Pitch 2.54 mm)
3D model PDIP40 (DIP; 40 Leads; Row Spacing 15.24 mm; Pitch 2.54 mm)
pins: 1 A11 (hiz), 2 A12 (hiz), 3 A13 (hiz), 4 A14 (hiz), 5 A15 (hiz), 6 CLK (in), 7 D4 (io), 8 D3 (io), 9 D5 (io), 10 D6 (io), 11 +5V (power), 12 D2 (io), 13 D7 (io), 14 D0 (io), 15 D1 (io), 16 ~{INT} (in), 17 NMI (in), 18 ~{HALT} (out), 19 ~{MREQ} (hiz), 20 ~{IORQ} (hiz), 21 ~{RD} (hiz), 22 ~{WR} (hiz), 23 ~{BUSACK} (out), 24 ~{WAIT} (in), 25 ~{BUSREQ} (in), 26 ~{RST} (in), 27 ~{M1} (out), 28 ~{RFSH} (out), 29 GND (power), 30 A0 (hiz), 31 A1 (hiz), 32 A2 (hiz), 33 A3 (hiz), 34 A4 (hiz), 35 A5 (hiz), 36 A6 (hiz), 37 A7 (hiz), 38 A8 (hiz), 39 A9 (hiz), 40 A10 (hiz)

## Z0840004PSC
designator U?
NMOS 8-Bit Microprocessor; Published: 15-Apr-2002; LatestRevisionDate: 04-Mar-2005; LatestRevisionNote: Stylized 3D Model Added.; DatasheetVersion: Jan-1989; PackageVersion: Jun-1999; PackageReference: PDIP40; Publisher: Altium Limited; PackageDescription: DIP; 40 Leads; Row Spacing 15.24 mm; Pitch 2.54 mm; ComponentLink1Description: Manufacturer Link; ComponentLink1URL: http://www.zilog.com/
footprint PDIP40 (DIP; 40 Leads; Row Spacing 15.24 mm; Pitch 2.54 mm)
3D model PDIP40 (DIP; 40 Leads; Row Spacing 15.24 mm; Pitch 2.54 mm)
pins: 1 A11 (hiz), 2 A12 (hiz), 3 A13 (hiz), 4 A14 (hiz), 5 A15 (hiz), 6 CLK (in), 7 D4 (io), 8 D3 (io), 9 D5 (io), 10 D6 (io), 11 +5V (power), 12 D2 (io), 13 D7 (io), 14 D0 (io), 15 D1 (io), 16 ~{INT} (in), 17 NMI (in), 18 ~{HALT} (out), 19 ~{MREQ} (hiz), 20 ~{IORQ} (hiz), 21 ~{RD} (hiz), 22 ~{WR} (hiz), 23 ~{BUSACK} (out), 24 ~{WAIT} (in), 25 ~{BUSREQ} (in), 26 ~{RST} (in), 27 ~{M1} (out), 28 ~{RFSH} (out), 29 GND (power), 30 A0 (hiz), 31 A1 (hiz), 32 A2 (hiz), 33 A3 (hiz), 34 A4 (hiz), 35 A5 (hiz), 36 A6 (hiz), 37 A7 (hiz), 38 A8 (hiz), 39 A9 (hiz), 40 A10 (hiz)

## Z0840004VSC
designator U?
NMOS 8-Bit Microprocessor; Published: 15-Apr-2002; LatestRevisionDate: 13-Apr-2006; LatestRevisionNote: IPC-7351 Footprint Added.; DatasheetVersion: Jan-1989; PackageReference: PCC44; Publisher: Altium Limited; PackageDescription: 44-Pin Leaded Chip Carrier 1.27 mm Pitch; Code_IPC: PLCC-44; ComponentLink1Description: Manufacturer Link; ComponentLink1URL: http://www.zilog.com/
footprint PCC44_N (Leaded Chip Carrier, 44-Leads, Body 16.6x16.6mm, Pitch 1.27mm, IPC Medium Density)
footprint PCC44_L (Leaded Chip Carrier, 44-Leads, Body 16.6x16.6mm, Pitch 1.27mm, IPC High Density)
footprint PCC44_M (Leaded Chip Carrier, 44-Leads, Body 16.6x16.6mm, Pitch 1.27mm, IPC Low Density)
3D model Z08400-PCC44 (44-Pin Leaded Chip Carrier 1.27 mm Pitch)
pins: 1 A11 (hiz), 2 A12 (hiz), 3 A13 (hiz), 4 A14 (hiz), 5 A15 (hiz), 6 NC, 7 CLK (in), 8 D4 (io), 9 D3 (io), 10 D5 (io), 11 D6 (io), 12 NC, 13 +5V (power), 14 D2 (io), 15 D7 (io), 16 D0 (io), 17 D1 (io), 18 ~{INT} (in), 19 NMI (in), 20 ~{HALT} (out), 21 ~{MREQ} (hiz), 22 ~{IORQ} (hiz), 23 ~{RD} (hiz), 24 NC, 25 NC, 26 ~{WR} (hiz), 27 ~{BUSACK} (out), 28 ~{WAIT} (in), 29 ~{BUSREQ} (in), 30 ~{RST} (in), 31 ~{M1} (out), 32 ~{RFSH} (out), 33 GND (power), 34 A0 (hiz), 35 A1 (hiz), 36 A2 (hiz), 37 A3 (hiz), 38 A4 (hiz), 39 A5 (hiz), 40 A6 (hiz), 41 A7 (hiz), 42 A8 (hiz), 43 A9 (hiz), 44 A10 (hiz)

## Z0840006DSE
designator U?
NMOS 8-Bit Microprocessor; Published: 15-Apr-2002; LatestRevisionDate: 04-Mar-2005; LatestRevisionNote: Stylized 3D Model Added.; DatasheetVersion: Jan-1989; PackageVersion: 1999; PackageReference: CerDIP40; Publisher: Altium Limited; PackageDescription: DIP; 40 Leads; Row Spacing 15.24 mm; Pitch 2.54 mm; ComponentLink1Description: Manufacturer Link; ComponentLink1URL: http://www.zilog.com/
footprint CerDIP40 (DIP; 40 Leads; Row Spacing 15.24 mm; Pitch 2.54 mm)
3D model PDIP40 (DIP; 40 Leads; Row Spacing 15.24 mm; Pitch 2.54 mm)
pins: 1 A11 (hiz), 2 A12 (hiz), 3 A13 (hiz), 4 A14 (hiz), 5 A15 (hiz), 6 CLK (in), 7 D4 (io), 8 D3 (io), 9 D5 (io), 10 D6 (io), 11 +5V (power), 12 D2 (io), 13 D7 (io), 14 D0 (io), 15 D1 (io), 16 ~{INT} (in), 17 NMI (in), 18 ~{HALT} (out), 19 ~{MREQ} (hiz), 20 ~{IORQ} (hiz), 21 ~{RD} (hiz), 22 ~{WR} (hiz), 23 ~{BUSACK} (out), 24 ~{WAIT} (in), 25 ~{BUSREQ} (in), 26 ~{RST} (in), 27 ~{M1} (out), 28 ~{RFSH} (out), 29 GND (power), 30 A0 (hiz), 31 A1 (hiz), 32 A2 (hiz), 33 A3 (hiz), 34 A4 (hiz), 35 A5 (hiz), 36 A6 (hiz), 37 A7 (hiz), 38 A8 (hiz), 39 A9 (hiz), 40 A10 (hiz)

## Z0840006PSC
designator U?
NMOS 8-Bit Microprocessor; Published: 15-Apr-2002; LatestRevisionDate: 04-Mar-2005; LatestRevisionNote: Stylized 3D Model Added.; DatasheetVersion: Jan-1989; PackageVersion: Jun-1999; PackageReference: PDIP40; Publisher: Altium Limited; PackageDescription: DIP; 40 Leads; Row Spacing 15.24 mm; Pitch 2.54 mm; ComponentLink1Description: Manufacturer Link; ComponentLink1URL: http://www.zilog.com/
footprint PDIP40 (DIP; 40 Leads; Row Spacing 15.24 mm; Pitch 2.54 mm)
3D model PDIP40 (DIP; 40 Leads; Row Spacing 15.24 mm; Pitch 2.54 mm)
pins: 1 A11 (hiz), 2 A12 (hiz), 3 A13 (hiz), 4 A14 (hiz), 5 A15 (hiz), 6 CLK (in), 7 D4 (io), 8 D3 (io), 9 D5 (io), 10 D6 (io), 11 +5V (power), 12 D2 (io), 13 D7 (io), 14 D0 (io), 15 D1 (io), 16 ~{INT} (in), 17 NMI (in), 18 ~{HALT} (out), 19 ~{MREQ} (hiz), 20 ~{IORQ} (hiz), 21 ~{RD} (hiz), 22 ~{WR} (hiz), 23 ~{BUSACK} (out), 24 ~{WAIT} (in), 25 ~{BUSREQ} (in), 26 ~{RST} (in), 27 ~{M1} (out), 28 ~{RFSH} (out), 29 GND (power), 30 A0 (hiz), 31 A1 (hiz), 32 A2 (hiz), 33 A3 (hiz), 34 A4 (hiz), 35 A5 (hiz), 36 A6 (hiz), 37 A7 (hiz), 38 A8 (hiz), 39 A9 (hiz), 40 A10 (hiz)

## Z0840006VSC
designator U?
NMOS 8-Bit Microprocessor; Published: 15-Apr-2002; LatestRevisionDate: 13-Apr-2006; LatestRevisionNote: IPC-7351 Footprint Added.; DatasheetVersion: Jan-1989; PackageReference: PCC44; Publisher: Altium Limited; PackageDescription: 44-Pin Leaded Chip Carrier 1.27 mm Pitch; Code_IPC: PLCC-44; ComponentLink1Description: Manufacturer Link; ComponentLink1URL: http://www.zilog.com/
footprint PCC44_N (Leaded Chip Carrier, 44-Leads, Body 16.6x16.6mm, Pitch 1.27mm, IPC Medium Density)
footprint PCC44_L (Leaded Chip Carrier, 44-Leads, Body 16.6x16.6mm, Pitch 1.27mm, IPC High Density)
footprint PCC44_M (Leaded Chip Carrier, 44-Leads, Body 16.6x16.6mm, Pitch 1.27mm, IPC Low Density)
3D model Z08400-PCC44 (44-Pin Leaded Chip Carrier 1.27 mm Pitch)
pins: 1 A11 (hiz), 2 A12 (hiz), 3 A13 (hiz), 4 A14 (hiz), 5 A15 (hiz), 6 NC, 7 CLK (in), 8 D4 (io), 9 D3 (io), 10 D5 (io), 11 D6 (io), 12 NC, 13 +5V (power), 14 D2 (io), 15 D7 (io), 16 D0 (io), 17 D1 (io), 18 ~{INT} (in), 19 NMI (in), 20 ~{HALT} (out), 21 ~{MREQ} (hiz), 22 ~{IORQ} (hiz), 23 ~{RD} (hiz), 24 NC, 25 NC, 26 ~{WR} (hiz), 27 ~{BUSACK} (out), 28 ~{WAIT} (in), 29 ~{BUSREQ} (in), 30 ~{RST} (in), 31 ~{M1} (out), 32 ~{RFSH} (out), 33 GND (power), 34 A0 (hiz), 35 A1 (hiz), 36 A2 (hiz), 37 A3 (hiz), 38 A4 (hiz), 39 A5 (hiz), 40 A6 (hiz), 41 A7 (hiz), 42 A8 (hiz), 43 A9 (hiz), 44 A10 (hiz)

## Z0840008PSC
designator U?
NMOS 8-Bit Microprocessor; Published: 15-Apr-2002; LatestRevisionDate: 04-Mar-2005; LatestRevisionNote: Stylized 3D Model Added.; DatasheetVersion: Jan-1989; PackageVersion: Jun-1999; PackageReference: PDIP40; Publisher: Altium Limited; PackageDescription: DIP; 40 Leads; Row Spacing 15.24 mm; Pitch 2.54 mm; ComponentLink1Description: Manufacturer Link; ComponentLink1URL: http://www.zilog.com/
footprint PDIP40 (DIP; 40 Leads; Row Spacing 15.24 mm; Pitch 2.54 mm)
3D model PDIP40 (DIP; 40 Leads; Row Spacing 15.24 mm; Pitch 2.54 mm)
pins: 1 A11 (hiz), 2 A12 (hiz), 3 A13 (hiz), 4 A14 (hiz), 5 A15 (hiz), 6 CLK (in), 7 D4 (io), 8 D3 (io), 9 D5 (io), 10 D6 (io), 11 +5V (power), 12 D2 (io), 13 D7 (io), 14 D0 (io), 15 D1 (io), 16 ~{INT} (in), 17 NMI (in), 18 ~{HALT} (out), 19 ~{MREQ} (hiz), 20 ~{IORQ} (hiz), 21 ~{RD} (hiz), 22 ~{WR} (hiz), 23 ~{BUSACK} (out), 24 ~{WAIT} (in), 25 ~{BUSREQ} (in), 26 ~{RST} (in), 27 ~{M1} (out), 28 ~{RFSH} (out), 29 GND (power), 30 A0 (hiz), 31 A1 (hiz), 32 A2 (hiz), 33 A3 (hiz), 34 A4 (hiz), 35 A5 (hiz), 36 A6 (hiz), 37 A7 (hiz), 38 A8 (hiz), 39 A9 (hiz), 40 A10 (hiz)

## Z0840008VSC
designator U?
NMOS 8-Bit Microprocessor; Published: 15-Apr-2002; LatestRevisionDate: 13-Apr-2006; LatestRevisionNote: IPC-7351 Footprint Added.; DatasheetVersion: Jan-1989; PackageReference: PCC44; Publisher: Altium Limited; PackageDescription: 44-Pin Leaded Chip Carrier 1.27 mm Pitch; Code_IPC: PLCC-44; ComponentLink1Description: Manufacturer Link; ComponentLink1URL: http://www.zilog.com/
footprint PCC44_N (Leaded Chip Carrier, 44-Leads, Body 16.6x16.6mm, Pitch 1.27mm, IPC Medium Density)
footprint PCC44_L (Leaded Chip Carrier, 44-Leads, Body 16.6x16.6mm, Pitch 1.27mm, IPC High Density)
footprint PCC44_M (Leaded Chip Carrier, 44-Leads, Body 16.6x16.6mm, Pitch 1.27mm, IPC Low Density)
3D model Z08400-PCC44 (44-Pin Leaded Chip Carrier 1.27 mm Pitch)
pins: 1 A11 (hiz), 2 A12 (hiz), 3 A13 (hiz), 4 A14 (hiz), 5 A15 (hiz), 6 NC, 7 CLK (in), 8 D4 (io), 9 D3 (io), 10 D5 (io), 11 D6 (io), 12 NC, 13 +5V (power), 14 D2 (io), 15 D7 (io), 16 D0 (io), 17 D1 (io), 18 ~{INT} (in), 19 NMI (in), 20 ~{HALT} (out), 21 ~{MREQ} (hiz), 22 ~{IORQ} (hiz), 23 ~{RD} (hiz), 24 NC, 25 NC, 26 ~{WR} (hiz), 27 ~{BUSACK} (out), 28 ~{WAIT} (in), 29 ~{BUSREQ} (in), 30 ~{RST} (in), 31 ~{M1} (out), 32 ~{RFSH} (out), 33 GND (power), 34 A0 (hiz), 35 A1 (hiz), 36 A2 (hiz), 37 A3 (hiz), 38 A4 (hiz), 39 A5 (hiz), 40 A6 (hiz), 41 A7 (hiz), 42 A8 (hiz), 43 A9 (hiz), 44 A10 (hiz)

## Z8018006FEC
designator U?
8-Bit Microprocessor; Published: 15-Apr-2002; LatestRevisionDate: 13-Apr-2006; LatestRevisionNote: IPC-7351 Footprint Added.; DatasheetVersion: 2000; PackageReference: RQFP80; Publisher: Altium Limited; PackageDescription: 80-Pin Quad Flat Pack Rectangular 0.8 mm Pitch; ComponentLink1Description: Manufacturer Link; ComponentLink1URL: http://www.zilog.com/; ComponentLink2Description: Datasheet; ComponentLink2URL: http://www.zilog.com/docs/z180/um0050.pdf
footprint RQFP80_N (QFP, 80-Leads, Body 20x14mm, Pitch 0.8mm, IPC Medium Density)
footprint RQFP80_L (QFP, 80-Leads, Body 20x14mm, Pitch 0.8mm, IPC High Density)
footprint RQFP80_M (QFP, 80-Leads, Body 20x14mm, Pitch 0.8mm, IPC Low Density)
3D model Z80180-RQFP80 (80-Pin Quad Flat Pack Rectangular 0.8 mm Pitch)
pins: 1 NMI (in), 2 NC, 3 NC, 4 ~{INT0} (in), 5 ~{INT1} (in), 6 ~{INT2} (in), 7 ST (out), 8 A0 (hiz), 9 A1 (hiz), 10 A2 (hiz), 11 A3 (hiz), 12 GND (power), 13 A4 (hiz), 14 NC, 15 A5 (hiz), 16 A6 (hiz), 17 A7 (hiz), 18 A8 (hiz), 19 A9 (hiz), 20 A10 (hiz), 21 A11 (hiz), 22 NC, 23 NC, 24 A12 (hiz), 25 A13 (hiz), 26 A14 (hiz), 27 A15 (hiz), 28 A16 (hiz), 29 A17 (hiz), 30 NC, 31 A18/TOUT (hiz), 32 VDD (power), 33 A19 (hiz), 34 GND (power), 35 D0 (io), 36 D1 (io), 37 D2 (io), 38 D3 (io), 39 D4 (io), 40 D5 (io), 41 D6 (io), 42 NC, 43 NC, 44 D7 (io), 45 ~{RTS0} (out), 46 ~{CTS0} (in), 47 ~{DCD0} (in), 48 TXA0 (out), 49 RXA0 (in), 50 CKA0/~{DREQ0} (io), 51 NC, 52 TXA1 (out), 53 TEST (out), 54 RXA1 (in), 55 CKA1/~{TEND0} (io), 56 TXS (out), 57 RXS/~{CTS1} (in), 58 CKS (io), 59 ~{DREQ1} (in), 60 ~{TEND1} (out), 61 ~{HALT} (out), 62 NC, 63 NC, 64 ~{RFSH} (out), 65 ~{IORQ} (hiz), 66 ~{MREQ} (hiz), 67 E (out), 68 ~{M1} (out), 69 ~{WR} (hiz), 70 ~{RD} (hiz), 71 Phi (out), 72 GND (power), 73 VDD (power), 74 XTAL, 75 NC, 76 EXTAL (in), 77 ~{WAIT} (in), 78 ~{BUSACK} (out), 79 ~{BUSREQ} (in), 80 ~{RST} (in)

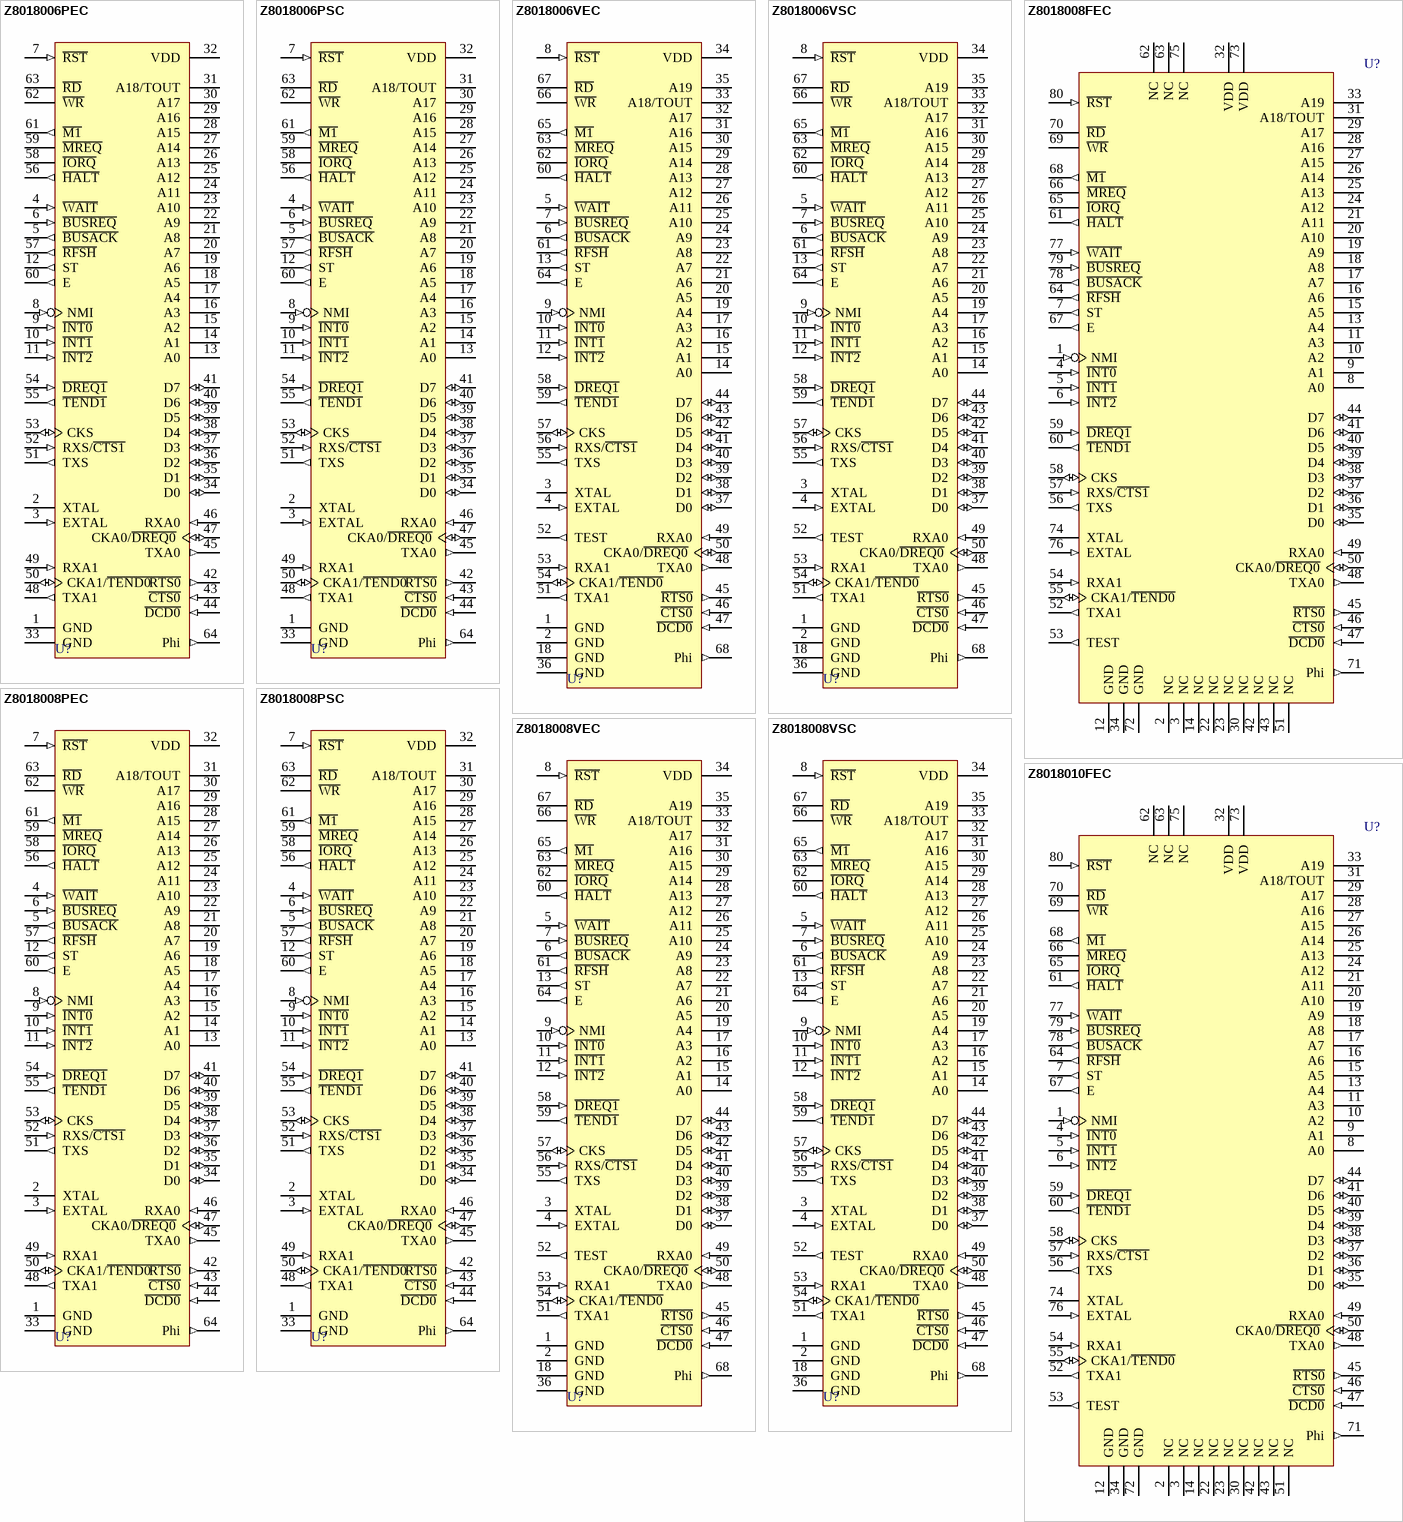
[diagram p2: symbols Z8018006PEC to Z8018010FEC]

## Z8018006PEC
designator U?
8-Bit Microprocessor; Published: 15-Apr-2002; LatestRevisionDate: 04-Mar-2005; LatestRevisionNote: Stylized 3D Model Added.; DatasheetVersion: 2000; PackageVersion: Jan-1989; PackageReference: DIP64; Publisher: Altium Limited; PackageDescription: DIP; 64 Leads; Row Spacing 19.05 mm; Pitch 1.778 mm; ComponentLink1Description: Manufacturer Link; ComponentLink1URL: http://www.zilog.com/; ComponentLink2Description: Datasheet; ComponentLink2URL: http://www.zilog.com/docs/z180/um0050.pdf
footprint DIP64 (DIP; 64 Leads; Row Spacing 19.05 mm; Pitch 1.778 mm)
3D model DIP64 (DIP; 64 Leads; Row Spacing 19.05 mm; Pitch 1.778 mm)
pins: 1 GND (power), 2 XTAL, 3 EXTAL (in), 4 ~{WAIT} (in), 5 ~{BUSACK} (out), 6 ~{BUSREQ} (in), 7 ~{RST} (in), 8 NMI (in), 9 ~{INT0} (in), 10 ~{INT1} (in), 11 ~{INT2} (in), 12 ST (out), 13 A0 (hiz), 14 A1 (hiz), 15 A2 (hiz), 16 A3 (hiz), 17 A4 (hiz), 18 A5 (hiz), 19 A6 (hiz), 20 A7 (hiz), 21 A8 (hiz), 22 A9 (hiz), 23 A10 (hiz), 24 A11 (hiz), 25 A12 (hiz), 26 A13 (hiz), 27 A14 (hiz), 28 A15 (hiz), 29 A16 (hiz), 30 A17 (hiz), 31 A18/TOUT (hiz), 32 VDD (power), 33 GND (power), 34 D0 (io), 35 D1 (io), 36 D2 (io), 37 D3 (io), 38 D4 (io), 39 D5 (io), 40 D6 (io), 41 D7 (io), 42 ~{RTS0} (out), 43 ~{CTS0} (in), 44 ~{DCD0} (in), 45 TXA0 (out), 46 RXA0 (in), 47 CKA0/~{DREQ0} (io), 48 TXA1 (out), 49 RXA1 (in), 50 CKA1/~{TEND0} (io), 51 TXS (out), 52 RXS/~{CTS1} (in), 53 CKS (io), 54 ~{DREQ1} (in), 55 ~{TEND1} (out), 56 ~{HALT} (out), 57 ~{RFSH} (out), 58 ~{IORQ} (hiz), 59 ~{MREQ} (hiz), 60 E (out), 61 ~{M1} (out), 62 ~{WR} (hiz), 63 ~{RD} (hiz), 64 Phi (out)

## Z8018006PSC
designator U?
8-Bit Microprocessor; Published: 15-Apr-2002; LatestRevisionDate: 04-Mar-2005; LatestRevisionNote: Stylized 3D Model Added.; DatasheetVersion: 2000; PackageVersion: Jan-1989; PackageReference: DIP64; Publisher: Altium Limited; PackageDescription: DIP; 64 Leads; Row Spacing 19.05 mm; Pitch 1.778 mm; ComponentLink1Description: Manufacturer Link; ComponentLink1URL: http://www.zilog.com/; ComponentLink2Description: Datasheet; ComponentLink2URL: http://www.zilog.com/docs/z180/um0050.pdf
footprint DIP64 (DIP; 64 Leads; Row Spacing 19.05 mm; Pitch 1.778 mm)
3D model DIP64 (DIP; 64 Leads; Row Spacing 19.05 mm; Pitch 1.778 mm)
pins: 1 GND (power), 2 XTAL, 3 EXTAL (in), 4 ~{WAIT} (in), 5 ~{BUSACK} (out), 6 ~{BUSREQ} (in), 7 ~{RST} (in), 8 NMI (in), 9 ~{INT0} (in), 10 ~{INT1} (in), 11 ~{INT2} (in), 12 ST (out), 13 A0 (hiz), 14 A1 (hiz), 15 A2 (hiz), 16 A3 (hiz), 17 A4 (hiz), 18 A5 (hiz), 19 A6 (hiz), 20 A7 (hiz), 21 A8 (hiz), 22 A9 (hiz), 23 A10 (hiz), 24 A11 (hiz), 25 A12 (hiz), 26 A13 (hiz), 27 A14 (hiz), 28 A15 (hiz), 29 A16 (hiz), 30 A17 (hiz), 31 A18/TOUT (hiz), 32 VDD (power), 33 GND (power), 34 D0 (io), 35 D1 (io), 36 D2 (io), 37 D3 (io), 38 D4 (io), 39 D5 (io), 40 D6 (io), 41 D7 (io), 42 ~{RTS0} (out), 43 ~{CTS0} (in), 44 ~{DCD0} (in), 45 TXA0 (out), 46 RXA0 (in), 47 CKA0/~{DREQ0} (io), 48 TXA1 (out), 49 RXA1 (in), 50 CKA1/~{TEND0} (io), 51 TXS (out), 52 RXS/~{CTS1} (in), 53 CKS (io), 54 ~{DREQ1} (in), 55 ~{TEND1} (out), 56 ~{HALT} (out), 57 ~{RFSH} (out), 58 ~{IORQ} (hiz), 59 ~{MREQ} (hiz), 60 E (out), 61 ~{M1} (out), 62 ~{WR} (hiz), 63 ~{RD} (hiz), 64 Phi (out)

## Z8018006VEC
designator U?
8-Bit Microprocessor; Published: 15-Apr-2002; LatestRevisionDate: 13-Apr-2006; LatestRevisionNote: IPC-7351 Footprint Added.; DatasheetVersion: 2000; PackageReference: PCC68; Publisher: Altium Limited; PackageDescription: 68-Pin Leaded Chip Carrier 1.27 mm Pitch; Code_IPC: PLCC-68; ComponentLink1Description: Manufacturer Link; ComponentLink1URL: http://www.zilog.com/; ComponentLink2Description: Datasheet; ComponentLink2URL: http://www.zilog.com/docs/z180/um0050.pdf
footprint PCC68_N (Leaded Chip Carrier, 68-Leads, Body 24x24mm, Pitch 1.27mm, IPC Medium Density)
footprint PCC68_L (Leaded Chip Carrier, 68-Leads, Body 24x24mm, Pitch 1.27mm, IPC High Density)
footprint PCC68_M (Leaded Chip Carrier, 68-Leads, Body 24x24mm, Pitch 1.27mm, IPC Low Density)
3D model Z80180-PCC68 (68-Pin Leaded Chip Carrier 1.27 mm Pitch)
pins: 1 GND (power), 2 GND (power), 3 XTAL, 4 EXTAL (in), 5 ~{WAIT} (in), 6 ~{BUSACK} (out), 7 ~{BUSREQ} (in), 8 ~{RST} (in), 9 NMI (in), 10 ~{INT0} (in), 11 ~{INT1} (in), 12 ~{INT2} (in), 13 ST (out), 14 A0 (hiz), 15 A1 (hiz), 16 A2 (hiz), 17 A3 (hiz), 18 GND (power), 19 A4 (hiz), 20 A5 (hiz), 21 A6 (hiz), 22 A7 (hiz), 23 A8 (hiz), 24 A9 (hiz), 25 A10 (hiz), 26 A11 (hiz), 27 A12 (hiz), 28 A13 (hiz), 29 A14 (hiz), 30 A15 (hiz), 31 A16 (hiz), 32 A17 (hiz), 33 A18/TOUT (hiz), 34 VDD (power), 35 A19 (hiz), 36 GND (power), 37 D0 (io), 38 D1 (io), 39 D2 (io), 40 D3 (io), 41 D4 (io), 42 D5 (io), 43 D6 (io), 44 D7 (io), 45 ~{RTS0} (out), 46 ~{CTS0} (in), 47 ~{DCD0} (in), 48 TXA0 (out), 49 RXA0 (in), 50 CKA0/~{DREQ0} (io), 51 TXA1 (out), 52 TEST (out), 53 RXA1 (in), 54 CKA1/~{TEND0} (io), 55 TXS (out), 56 RXS/~{CTS1} (in), 57 CKS (io), 58 ~{DREQ1} (in), 59 ~{TEND1} (out), 60 ~{HALT} (out), 61 ~{RFSH} (out), 62 ~{IORQ} (hiz), 63 ~{MREQ} (hiz), 64 E (out), 65 ~{M1} (out), 66 ~{WR} (hiz), 67 ~{RD} (hiz), 68 Phi (out)

## Z8018006VSC
designator U?
8-Bit Microprocessor; Published: 15-Apr-2002; LatestRevisionDate: 13-Apr-2006; LatestRevisionNote: IPC-7351 Footprint Added.; DatasheetVersion: 2000; PackageReference: PCC68; Publisher: Altium Limited; PackageDescription: 68-Pin Leaded Chip Carrier 1.27 mm Pitch; Code_IPC: PLCC-68; ComponentLink1Description: Manufacturer Link; ComponentLink1URL: http://www.zilog.com/; ComponentLink2Description: Datasheet; ComponentLink2URL: http://www.zilog.com/docs/z180/um0050.pdf
footprint PCC68_N (Leaded Chip Carrier, 68-Leads, Body 24x24mm, Pitch 1.27mm, IPC Medium Density)
footprint PCC68_L (Leaded Chip Carrier, 68-Leads, Body 24x24mm, Pitch 1.27mm, IPC High Density)
footprint PCC68_M (Leaded Chip Carrier, 68-Leads, Body 24x24mm, Pitch 1.27mm, IPC Low Density)
3D model Z80180-PCC68 (68-Pin Leaded Chip Carrier 1.27 mm Pitch)
pins: 1 GND (power), 2 GND (power), 3 XTAL, 4 EXTAL (in), 5 ~{WAIT} (in), 6 ~{BUSACK} (out), 7 ~{BUSREQ} (in), 8 ~{RST} (in), 9 NMI (in), 10 ~{INT0} (in), 11 ~{INT1} (in), 12 ~{INT2} (in), 13 ST (out), 14 A0 (hiz), 15 A1 (hiz), 16 A2 (hiz), 17 A3 (hiz), 18 GND (power), 19 A4 (hiz), 20 A5 (hiz), 21 A6 (hiz), 22 A7 (hiz), 23 A8 (hiz), 24 A9 (hiz), 25 A10 (hiz), 26 A11 (hiz), 27 A12 (hiz), 28 A13 (hiz), 29 A14 (hiz), 30 A15 (hiz), 31 A16 (hiz), 32 A17 (hiz), 33 A18/TOUT (hiz), 34 VDD (power), 35 A19 (hiz), 36 GND (power), 37 D0 (io), 38 D1 (io), 39 D2 (io), 40 D3 (io), 41 D4 (io), 42 D5 (io), 43 D6 (io), 44 D7 (io), 45 ~{RTS0} (out), 46 ~{CTS0} (in), 47 ~{DCD0} (in), 48 TXA0 (out), 49 RXA0 (in), 50 CKA0/~{DREQ0} (io), 51 TXA1 (out), 52 TEST (out), 53 RXA1 (in), 54 CKA1/~{TEND0} (io), 55 TXS (out), 56 RXS/~{CTS1} (in), 57 CKS (io), 58 ~{DREQ1} (in), 59 ~{TEND1} (out), 60 ~{HALT} (out), 61 ~{RFSH} (out), 62 ~{IORQ} (hiz), 63 ~{MREQ} (hiz), 64 E (out), 65 ~{M1} (out), 66 ~{WR} (hiz), 67 ~{RD} (hiz), 68 Phi (out)

## Z8018008FEC
designator U?
8-Bit Microprocessor; Published: 15-Apr-2002; LatestRevisionDate: 13-Apr-2006; LatestRevisionNote: IPC-7351 Footprint Added.; DatasheetVersion: 2000; PackageReference: RQFP80; Publisher: Altium Limited; PackageDescription: 80-Pin Quad Flat Pack Rectangular 0.8 mm Pitch; ComponentLink1Description: Manufacturer Link; ComponentLink1URL: http://www.zilog.com/; ComponentLink2Description: Datasheet; ComponentLink2URL: http://www.zilog.com/docs/z180/um0050.pdf
footprint RQFP80_N (QFP, 80-Leads, Body 20x14mm, Pitch 0.8mm, IPC Medium Density)
footprint RQFP80_L (QFP, 80-Leads, Body 20x14mm, Pitch 0.8mm, IPC High Density)
footprint RQFP80_M (QFP, 80-Leads, Body 20x14mm, Pitch 0.8mm, IPC Low Density)
3D model Z80180-RQFP80 (80-Pin Quad Flat Pack Rectangular 0.8 mm Pitch)
pins: 1 NMI (in), 2 NC, 3 NC, 4 ~{INT0} (in), 5 ~{INT1} (in), 6 ~{INT2} (in), 7 ST (out), 8 A0 (hiz), 9 A1 (hiz), 10 A2 (hiz), 11 A3 (hiz), 12 GND (power), 13 A4 (hiz), 14 NC, 15 A5 (hiz), 16 A6 (hiz), 17 A7 (hiz), 18 A8 (hiz), 19 A9 (hiz), 20 A10 (hiz), 21 A11 (hiz), 22 NC, 23 NC, 24 A12 (hiz), 25 A13 (hiz), 26 A14 (hiz), 27 A15 (hiz), 28 A16 (hiz), 29 A17 (hiz), 30 NC, 31 A18/TOUT (hiz), 32 VDD (power), 33 A19 (hiz), 34 GND (power), 35 D0 (io), 36 D1 (io), 37 D2 (io), 38 D3 (io), 39 D4 (io), 40 D5 (io), 41 D6 (io), 42 NC, 43 NC, 44 D7 (io), 45 ~{RTS0} (out), 46 ~{CTS0} (in), 47 ~{DCD0} (in), 48 TXA0 (out), 49 RXA0 (in), 50 CKA0/~{DREQ0} (io), 51 NC, 52 TXA1 (out), 53 TEST (out), 54 RXA1 (in), 55 CKA1/~{TEND0} (io), 56 TXS (out), 57 RXS/~{CTS1} (in), 58 CKS (io), 59 ~{DREQ1} (in), 60 ~{TEND1} (out), 61 ~{HALT} (out), 62 NC, 63 NC, 64 ~{RFSH} (out), 65 ~{IORQ} (hiz), 66 ~{MREQ} (hiz), 67 E (out), 68 ~{M1} (out), 69 ~{WR} (hiz), 70 ~{RD} (hiz), 71 Phi (out), 72 GND (power), 73 VDD (power), 74 XTAL, 75 NC, 76 EXTAL (in), 77 ~{WAIT} (in), 78 ~{BUSACK} (out), 79 ~{BUSREQ} (in), 80 ~{RST} (in)

## Z8018008PEC
designator U?
8-Bit Microprocessor; Published: 15-Apr-2002; LatestRevisionDate: 04-Mar-2005; LatestRevisionNote: Stylized 3D Model Added.; DatasheetVersion: 2000; PackageVersion: Jan-1989; PackageReference: DIP64; Publisher: Altium Limited; PackageDescription: DIP; 64 Leads; Row Spacing 19.05 mm; Pitch 1.778 mm; ComponentLink1Description: Manufacturer Link; ComponentLink1URL: http://www.zilog.com/; ComponentLink2Description: Datasheet; ComponentLink2URL: http://www.zilog.com/docs/z180/um0050.pdf
footprint DIP64 (DIP; 64 Leads; Row Spacing 19.05 mm; Pitch 1.778 mm)
3D model DIP64 (DIP; 64 Leads; Row Spacing 19.05 mm; Pitch 1.778 mm)
pins: 1 GND (power), 2 XTAL, 3 EXTAL (in), 4 ~{WAIT} (in), 5 ~{BUSACK} (out), 6 ~{BUSREQ} (in), 7 ~{RST} (in), 8 NMI (in), 9 ~{INT0} (in), 10 ~{INT1} (in), 11 ~{INT2} (in), 12 ST (out), 13 A0 (hiz), 14 A1 (hiz), 15 A2 (hiz), 16 A3 (hiz), 17 A4 (hiz), 18 A5 (hiz), 19 A6 (hiz), 20 A7 (hiz), 21 A8 (hiz), 22 A9 (hiz), 23 A10 (hiz), 24 A11 (hiz), 25 A12 (hiz), 26 A13 (hiz), 27 A14 (hiz), 28 A15 (hiz), 29 A16 (hiz), 30 A17 (hiz), 31 A18/TOUT (hiz), 32 VDD (power), 33 GND (power), 34 D0 (io), 35 D1 (io), 36 D2 (io), 37 D3 (io), 38 D4 (io), 39 D5 (io), 40 D6 (io), 41 D7 (io), 42 ~{RTS0} (out), 43 ~{CTS0} (in), 44 ~{DCD0} (in), 45 TXA0 (out), 46 RXA0 (in), 47 CKA0/~{DREQ0} (io), 48 TXA1 (out), 49 RXA1 (in), 50 CKA1/~{TEND0} (io), 51 TXS (out), 52 RXS/~{CTS1} (in), 53 CKS (io), 54 ~{DREQ1} (in), 55 ~{TEND1} (out), 56 ~{HALT} (out), 57 ~{RFSH} (out), 58 ~{IORQ} (hiz), 59 ~{MREQ} (hiz), 60 E (out), 61 ~{M1} (out), 62 ~{WR} (hiz), 63 ~{RD} (hiz), 64 Phi (out)